# EAGLE library part 6264 (library bt)
6264 SRAM, 8kx8 (64kbit)
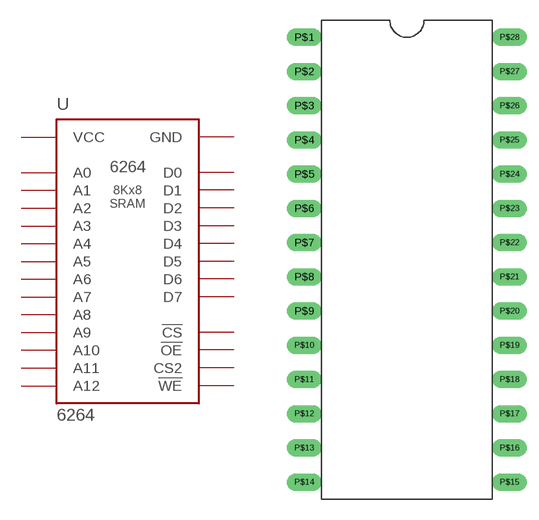
[diagram p19: symbol with the pads of DIL28-6; footprint DIL28-6]

Designator prefix U

## 6264  [DIL28-6]
P$2  A12
P$3  A7
P$4  A6
P$5  A5
P$6  A4
P$7  A3
P$8  A2
P$9  A1
P$10  A0
P$11  D0
P$12  D1
P$13  D2
P$14  GND
P$15  D3
P$16  D4
P$17  D5
P$18  D6
P$19  D7
P$20  !CS
P$21  A10
P$22  !OE
P$23  A11
P$24  A9
P$25  A8
P$26  CS2
P$27  !WE
P$28  VCC

## Footprint DIL28-6 (pad centres in mm)
drill 0.8 long: P$1 -7.62,16.51; P$2 -7.62,13.97; P$3 -7.62,11.43; P$4 -7.62,8.89; P$5 -7.62,6.35; P$6 -7.62,3.81; P$7 -7.62,1.27; P$8 -7.62,-1.27; P$9 -7.62,-3.81; P$10 -7.62,-6.35; P$11 -7.62,-8.89; P$12 -7.62,-11.43; P$13 -7.62,-13.97; P$14 -7.62,-16.51; P$15 7.62,-16.51; P$16 7.62,-13.97; P$17 7.62,-11.43; P$18 7.62,-8.89; P$19 7.62,-6.35; P$20 7.62,-3.81; P$21 7.62,-1.27; P$22 7.62,1.27; P$23 7.62,3.81; P$24 7.62,6.35; P$25 7.62,8.89; P$26 7.62,11.43; P$27 7.62,13.97; P$28 7.62,16.51